# EAGLE library part NLAS4599 (library lightmeter)
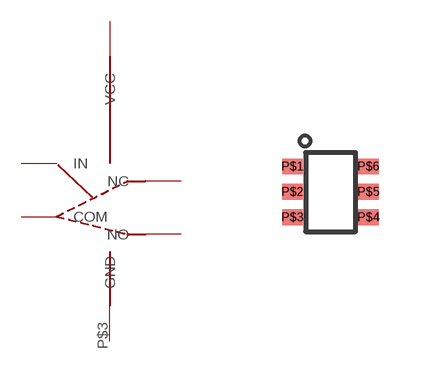
[diagram p13: symbol with the pads of SOT-363; footprint SOT-363]

Designator prefix -

## NLAS4599  [SOT-363]
P$1  IN
P$2  VCC
P$3  GND
P$4  NC
P$5  COM
P$6  NO

## Footprint SOT-363 (pad centres in mm)
smd 0.5 x 0.399: P$1 -0.95,0.635; P$2 -0.95,0; P$3 -0.95,-0.635; P$4 0.95,-0.635; P$5 0.95,0; P$6 0.95,0.635